# Altium footprint library PPX-C025L25B.PcbLib: 1 footprints
Each footprint in its own frame and in the unit in brackets; x right, y up, seen from the top. Pads: shape width x height; smd on the part's side, far side on the other; paste and mask are expansions set on the pad; w line width, h text height; cw(c..) or ccw(c..) is an arc to the next point about the centre after c.
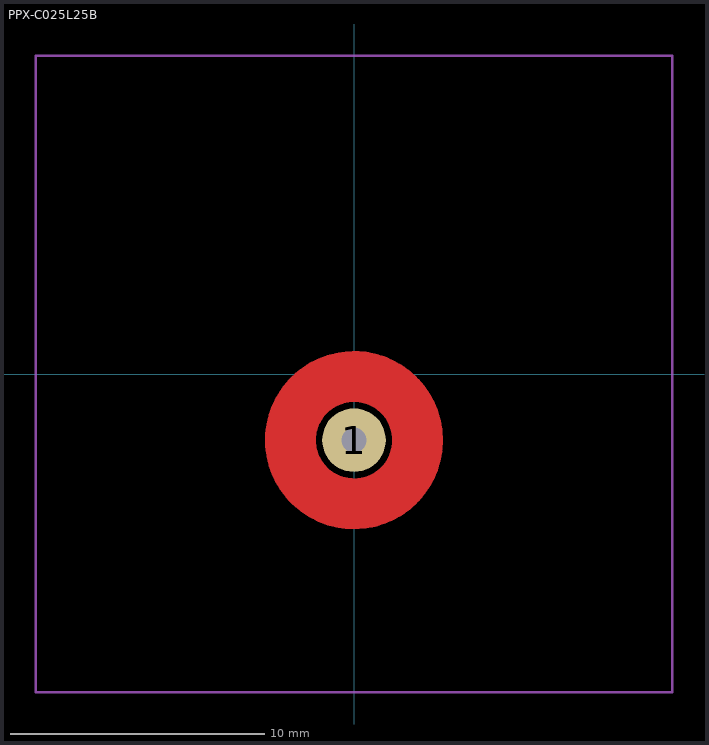
[diagram p0: the footprint, top view; thin cyan lines are the x and y axes]

## PPX-C025L25B [mm]
height 8.5
pads (2):
  round 0 smd: 0(0,-2.6)
  round 2.5 hole 1: 1(0,-2.6)
Top Layer:
  circle w2: c0,-2.6 r2.5
Mechanical 7:
  lines w0.1: -12.5,-12.5 -12.5,12.5 12.5,12.5 12.5,-12.5 -12.5,-12.5
3D body "PPX-C025L25B-v01.step": height 8.5, standoff -1.9, extent -12.5,-12.5 12.5,12.5